# Altium integrated library CMI-1210-92T.IntLib: 1 symbol
Pins are listed as number, name and electrical type; pins without a type are passive.

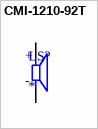
[diagram p0: symbol CMI-1210-92T]

## CMI-1210-92T
designator LS?
12 mm, 12 Vdc, 92 dB, Through Hole, Driving Circuit, Continuous Tone, Magnetic Audio Indicator Buzzer; MF: Same Sky; MP: CMI-1210-92T; SnapEDA_Link: https://www.snapeda.com/parts/CMI-1210-92T/Same+Sky/view-part/?ref=snap; Package: Package; Value: *; Check_prices: https://www.snapeda.com/parts/CMI-1210-92T/Same+Sky/view-part/?ref=eda
footprint XDCR_CMI-1210-92T
pins: N, P
text: +; -